# Altium schematic symbol library CRCW25126R80FKEGHP.SchLib: 1 symbol
Pins are listed as number, name and electrical type; pins without a type are passive.

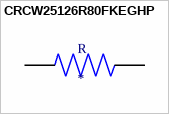
[diagram p0: symbol CRCW25126R80FKEGHP]

## CRCW25126R80FKEGHP
designator R
6.8 Ohms Â±1% 1.5W Chip Resistor 2512 (6432 Metric) Automotive AEC-Q200, Pulse Withstanding Thick Film; MP: CRCW25126R80FKEGHP; MF: Vishay; Value: *; Package: 6331 Vishay; DigiKey-Purchase-URL: https://snapeda.com/shop?store=DigiKey&id=4089957; Mouser-Purchase-URL: https://snapeda.com/shop?store=Mouser&id=4089957; SnapEDA_Link: https://www.snapeda.com/parts/CRCW25126R80FKEGHP/Vishay/view-part/4089957/?ref=snap; Digi-Key_Part_Number: 541-6.80RCT-ND
footprint RESC6331X70N
pins: 1, 2